# EAGLE library part MC_ZASW-2-50DR (library 1A-meinLib)
High isolation Switch, 50 Ohm, SPDT, TTL Driver, Refelctive, DC..5GHz, Mini-Circuits
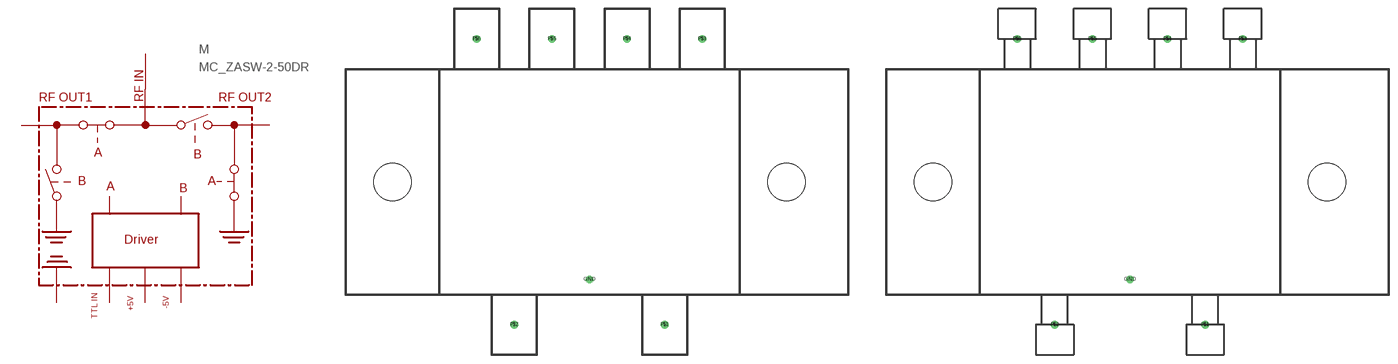
[diagram p142: symbol with the pads of MC_CY353; footprints MC_CY353, MC_CY353_SMA]

Designator prefix M

## MC_ZASW-2-50DR  [MC_CY353]
GND  GND  pwr
P$1  RF_IN  pas
P$2  +5V  pas
P$3  RF_OUT1  pas
P$4  TTL-IN  in
P$5  -5V  pas
P$6  RF_OUT2  pas

## MC_ZASW-2-50DRSMA  [MC_CY353_SMA]
Pads as for MC_CY353

## Footprint MC_CY353 (pad centres in mm)
drill 0.8 round: GND 0,-16.51; P$1 12.7,-24.13; P$2 -12.7,-24.13; P$3 19.05,24.13; P$4 6.35,24.13; P$5 -6.35,24.13; P$6 -19.05,24.13
hole 6.35 at -33.274,0
hole 6.35 at 33.274,0

## Footprint MC_CY353_SMA (pad centres in mm)
Gehäuse CY353, SMA, Mini-Circuits
drill 0.8 round: GND 0,-16.51; P$1 12.7,-24.13; P$2 -12.7,-24.13; P$3 19.05,24.13; P$4 6.35,24.13; P$5 -6.35,24.13; P$6 -19.05,24.13
hole 6.35 at -33.274,0
hole 6.35 at 33.274,0